# Altium integrated library Maxim Logic Switch.IntLib: 311 symbols (part 3 of 6)
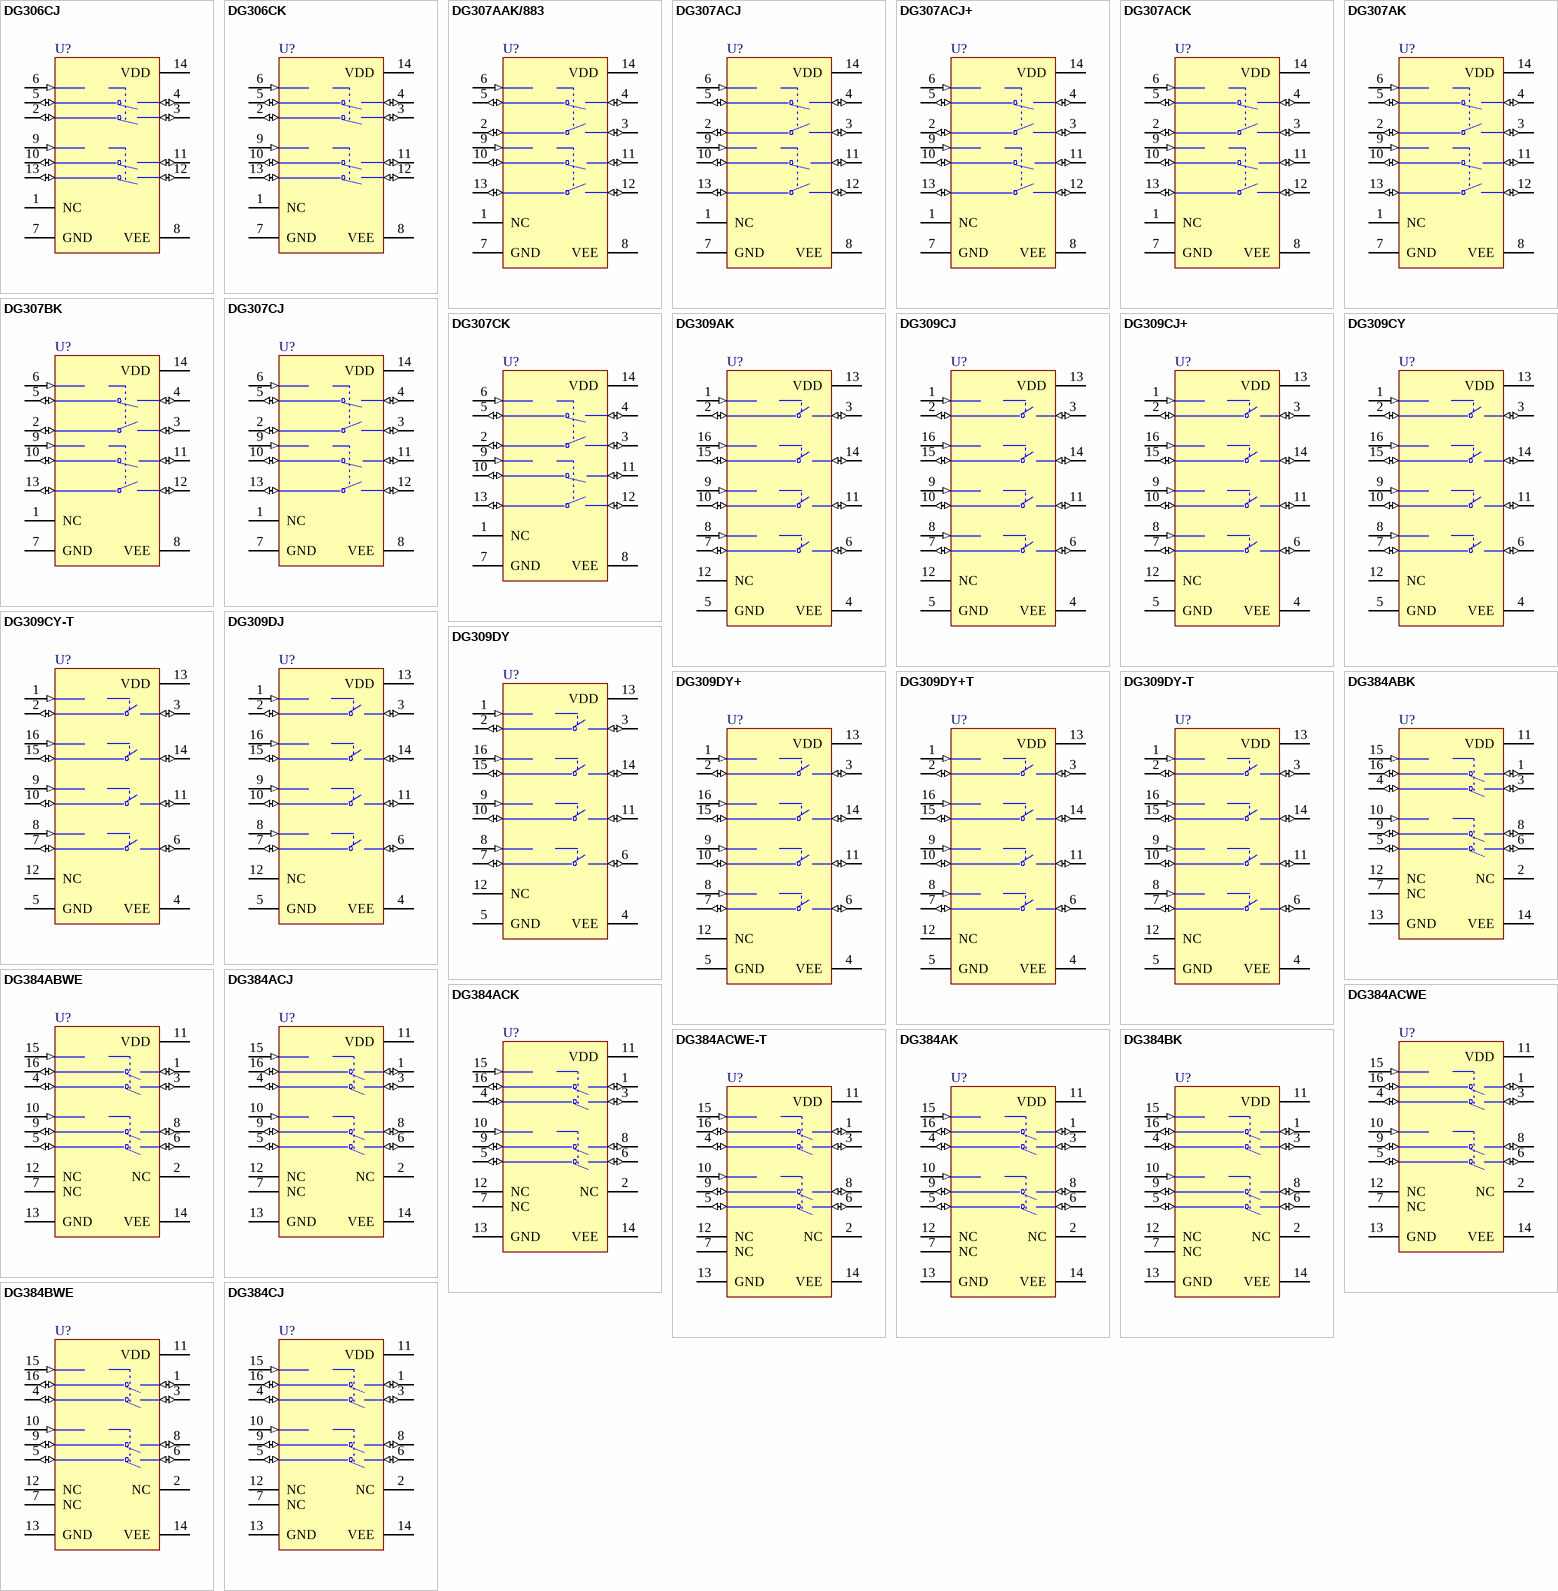
[diagram p12: symbols DG306CJ to DG384CJ]

## DG307AK
designator U?
CMOS,  Analog Switch; Published: 16-Jan-2001; LatestRevisionDate: 29-May-2009; LatestRevisionNote: Component Body Added.; PackageVersion: 1996; PackageReference: JD14; Publisher: Altium Limited; PackageDescription: DIP, 14-Pin, Row Spacing 7.62 mm, Pitch 2.54 mm; ComponentLink1Description: Manufacturer Link; ComponentLink1URL: http://www.maxim-ic.com/; ComponentLink2Description: Datasheet; ComponentLink2URL: http://pdfserv.maxim-ic.com/en/ds/DG304A-DG307A.pdf
footprint JD14 (DIP, 14-Leads, Row Spacing 7.62mm, Pitch 2.54mm, Body 19.56x6.73mm)
3D model JD14 (DIP, 14-Pin, Row Spacing 7.62 mm, Pitch 2.54 mm)
pins: 1 NC, 2 S3 (io), 3 D3 (io), 4 D1 (io), 5 S1 (io), 6 IN1 (in), 7 GND (power), 8 VEE (power), 9 IN2 (in), 10 S2 (io), 11 D2 (io), 12 D4 (io), 13 S4 (io), 14 VDD (power)

## DG307BK
designator U?
CMOS,  Analog Switch; Published: 16-Jan-2001; LatestRevisionDate: 29-May-2009; LatestRevisionNote: Component Body Added.; PackageVersion: 1996; PackageReference: JD14; Publisher: Altium Limited; PackageDescription: DIP, 14-Pin, Row Spacing 7.62 mm, Pitch 2.54 mm; ComponentLink1Description: Manufacturer Link; ComponentLink1URL: http://www.maxim-ic.com/; ComponentLink2Description: Datasheet; ComponentLink2URL: http://pdfserv.maxim-ic.com/en/ds/DG304A-DG307A.pdf
footprint JD14 (DIP, 14-Leads, Row Spacing 7.62mm, Pitch 2.54mm, Body 19.56x6.73mm)
3D model JD14 (DIP, 14-Pin, Row Spacing 7.62 mm, Pitch 2.54 mm)
pins: 1 NC, 2 S3 (io), 3 D3 (io), 4 D1 (io), 5 S1 (io), 6 IN1 (in), 7 GND (power), 8 VEE (power), 9 IN2 (in), 10 S2 (io), 11 D2 (io), 12 D4 (io), 13 S4 (io), 14 VDD (power)

## DG307CJ
designator U?
CMOS,  Analog Switch; Published: 16-Jan-2001; LatestRevisionDate: 29-May-2009; LatestRevisionNote: Component Body Added.; PackageVersion: RevB, 21-0043; PackageReference: PD14; Publisher: Altium Limited; PackageDescription: DIP, 14-Pin, Row Spacing 7.62 mm, Pitch 2.54 mm; Code_JEDEC: MS-001-AC; ComponentLink1Description: Manufacturer Link; ComponentLink1URL: http://www.maxim-ic.com/; ComponentLink2Description: Datasheet; ComponentLink2URL: http://pdfserv.maxim-ic.com/en/ds/DG304A-DG307A.pdf
footprint PD14 (DIP, 14-Leads, Row Spacing 7.62mm, Pitch 2.54mm, Body 19.05x7.24mm)
3D model PD14 (DIP, 14-Pin, Row Spacing 7.62 mm, Pitch 2.54 mm)
pins: 1 NC, 2 S3 (io), 3 D3 (io), 4 D1 (io), 5 S1 (io), 6 IN1 (in), 7 GND (power), 8 VEE (power), 9 IN2 (in), 10 S2 (io), 11 D2 (io), 12 D4 (io), 13 S4 (io), 14 VDD (power)

## DG307CK
designator U?
CMOS,  Analog Switch; Published: 16-Jan-2001; LatestRevisionDate: 29-May-2009; LatestRevisionNote: Component Body Added.; PackageVersion: 1996; PackageReference: JD14; Publisher: Altium Limited; PackageDescription: DIP, 14-Pin, Row Spacing 7.62 mm, Pitch 2.54 mm; ComponentLink1Description: Manufacturer Link; ComponentLink1URL: http://www.maxim-ic.com/; ComponentLink2Description: Datasheet; ComponentLink2URL: http://pdfserv.maxim-ic.com/en/ds/DG304A-DG307A.pdf
footprint JD14 (DIP, 14-Leads, Row Spacing 7.62mm, Pitch 2.54mm, Body 19.56x6.73mm)
3D model JD14 (DIP, 14-Pin, Row Spacing 7.62 mm, Pitch 2.54 mm)
pins: 1 NC, 2 S3 (io), 3 D3 (io), 4 D1 (io), 5 S1 (io), 6 IN1 (in), 7 GND (power), 8 VEE (power), 9 IN2 (in), 10 S2 (io), 11 D2 (io), 12 D4 (io), 13 S4 (io), 14 VDD (power)

## DG309AK
designator U?
Quad, SPST, Analog Switch; Published: 16-Jan-2001; LatestRevisionDate: 29-May-2009; LatestRevisionNote: Component Body Added.; PackageVersion: 1996; PackageReference: JE16; Publisher: Altium Limited; PackageDescription: DIP, 16-Pin, Row Spacing 7.62 mm, Pitch 2.54 mm; ComponentLink1Description: Manufacturer Link; ComponentLink1URL: http://www.maxim-ic.com/; ComponentLink2Description: Datasheet; ComponentLink2URL: http://pdfserv.maxim-ic.com/en/ds/DG308A-DG309.pdf
footprint JE16 (DIP, 16-Leads, Row Spacing 7.62mm, Pitch 2.54mm, Body 20.37x6.73mm)
3D model JE16 (DIP, 16-Pin, Row Spacing 7.62 mm, Pitch 2.54 mm)
pins: 1 IN1 (in), 2 D1 (io), 3 S1 (io), 4 VEE (power), 5 GND (power), 6 S4 (io), 7 D4 (io), 8 IN4 (in), 9 IN3 (in), 10 D3 (io), 11 S3 (io), 12 NC, 13 VDD (power), 14 S2 (io), 15 D2 (io), 16 IN2 (in)

## DG309CJ
designator U?
Quad, SPST, Analog Switch; Published: 16-Jan-2001; LatestRevisionDate: 29-May-2009; LatestRevisionNote: Component Body Added.; PackageVersion: 1997; PackageReference: PE16A; Publisher: Altium Limited; PackageDescription: DIP, 16-Pin, Row Spacing 7.62 mm, Pitch 2.54 mm; Code_JEDEC: MS-001-BB; ComponentLink1Description: Manufacturer Link; ComponentLink1URL: http://www.maxim-ic.com/; ComponentLink2Description: Datasheet; ComponentLink2URL: http://pdfserv.maxim-ic.com/en/ds/DG308A-DG309.pdf
footprint PE16A (DIP, 16-Leads, Row Spacing 7.62mm, Pitch 2.54mm, Body 19.18x6.99mm)
3D model PE16 (DIP, 16-Pin, Row Spacing 7.62 mm, Pitch 2.54 mm)
pins: 1 IN1 (in), 2 D1 (io), 3 S1 (io), 4 VEE (power), 5 GND (power), 6 S4 (io), 7 D4 (io), 8 IN4 (in), 9 IN3 (in), 10 D3 (io), 11 S3 (io), 12 NC, 13 VDD (power), 14 S2 (io), 15 D2 (io), 16 IN2 (in)

## DG309CJ+
designator U?
Quad, SPST, Analog Switch; Published: 16-Jan-2001; LatestRevisionDate: 29-May-2009; LatestRevisionNote: Component Body Added.; PackageVersion: 1997; PackageReference: PE16A; Publisher: Altium Limited; PackageDescription: DIP, 16-Pin, Row Spacing 7.62 mm, Pitch 2.54 mm; Code_JEDEC: MS-001-BB; ComponentLink1Description: Manufacturer Link; ComponentLink1URL: http://www.maxim-ic.com/; ComponentLink2Description: Datasheet; ComponentLink2URL: http://pdfserv.maxim-ic.com/en/ds/DG308A-DG309.pdf
footprint PE16A (DIP, 16-Leads, Row Spacing 7.62mm, Pitch 2.54mm, Body 19.18x6.99mm)
3D model PE16 (DIP, 16-Pin, Row Spacing 7.62 mm, Pitch 2.54 mm)
pins: 1 IN1 (in), 2 D1 (io), 3 S1 (io), 4 VEE (power), 5 GND (power), 6 S4 (io), 7 D4 (io), 8 IN4 (in), 9 IN3 (in), 10 D3 (io), 11 S3 (io), 12 NC, 13 VDD (power), 14 S2 (io), 15 D2 (io), 16 IN2 (in)

## DG309CY
designator U?
Quad, SPST, Analog Switch; Published: 16-Jan-2001; LatestRevisionDate: 13-Apr-2006; LatestRevisionNote: IPC-7351 Footprint Added.; PackageReference: NSO16; Publisher: Altium Limited; PackageDescription: 16-Pin Small Outline Integrated Circuit 1.27 mm Pitch; Code_JEDEC: MS-012-AC; Code_IPC: SOIC127P600-16; ComponentLink1Description: Manufacturer Link; ComponentLink1URL: http://www.maxim-ic.com/; ComponentLink2Description: Datasheet; ComponentLink2URL: http://pdfserv.maxim-ic.com/en/ds/DG308A-DG309.pdf
footprint NSO16_N (SOIC, 16-Leads, Body 9.9x3.9mm, Pitch 1.27mm, IPC Medium Density)
footprint NSO16_L (SOIC, 16-Leads, Body 9.9x3.9mm, Pitch 1.27mm, IPC High Density)
footprint NSO16_M (SOIC, 16-Leads, Body 9.9x3.9mm, Pitch 1.27mm, IPC Low Density)
3D model NSO16 (16-Pin Small Outline Integrated Circuit 1.27 mm Pitch)
pins: 1 IN1 (in), 2 D1 (io), 3 S1 (io), 4 VEE (power), 5 GND (power), 6 S4 (io), 7 D4 (io), 8 IN4 (in), 9 IN3 (in), 10 D3 (io), 11 S3 (io), 12 NC, 13 VDD (power), 14 S2 (io), 15 D2 (io), 16 IN2 (in)

## DG309CY-T
designator U?
Quad, SPST, Analog Switch; Published: 16-Jan-2001; LatestRevisionDate: 13-Apr-2006; LatestRevisionNote: IPC-7351 Footprint Added.; PackageReference: NSO16; Publisher: Altium Limited; PackageDescription: 16-Pin Small Outline Integrated Circuit 1.27 mm Pitch; Code_JEDEC: MS-012-AC; Code_IPC: SOIC127P600-16; ComponentLink1Description: Manufacturer Link; ComponentLink1URL: http://www.maxim-ic.com/; ComponentLink2Description: Datasheet; ComponentLink2URL: http://pdfserv.maxim-ic.com/en/ds/DG308A-DG309.pdf
footprint NSO16_N (SOIC, 16-Leads, Body 9.9x3.9mm, Pitch 1.27mm, IPC Medium Density)
footprint NSO16_L (SOIC, 16-Leads, Body 9.9x3.9mm, Pitch 1.27mm, IPC High Density)
footprint NSO16_M (SOIC, 16-Leads, Body 9.9x3.9mm, Pitch 1.27mm, IPC Low Density)
3D model NSO16 (16-Pin Small Outline Integrated Circuit 1.27 mm Pitch)
pins: 1 IN1 (in), 2 D1 (io), 3 S1 (io), 4 VEE (power), 5 GND (power), 6 S4 (io), 7 D4 (io), 8 IN4 (in), 9 IN3 (in), 10 D3 (io), 11 S3 (io), 12 NC, 13 VDD (power), 14 S2 (io), 15 D2 (io), 16 IN2 (in)

## DG309DJ
designator U?
Quad, SPST, Analog Switch; Published: 16-Jan-2001; LatestRevisionDate: 29-May-2009; LatestRevisionNote: Component Body Added.; PackageVersion: 1997; PackageReference: PE16A; Publisher: Altium Limited; PackageDescription: DIP, 16-Pin, Row Spacing 7.62 mm, Pitch 2.54 mm; Code_JEDEC: MS-001-BB; ComponentLink1Description: Manufacturer Link; ComponentLink1URL: http://www.maxim-ic.com/; ComponentLink2Description: Datasheet; ComponentLink2URL: http://pdfserv.maxim-ic.com/en/ds/DG308A-DG309.pdf
footprint PE16A (DIP, 16-Leads, Row Spacing 7.62mm, Pitch 2.54mm, Body 19.18x6.99mm)
3D model PE16 (DIP, 16-Pin, Row Spacing 7.62 mm, Pitch 2.54 mm)
pins: 1 IN1 (in), 2 D1 (io), 3 S1 (io), 4 VEE (power), 5 GND (power), 6 S4 (io), 7 D4 (io), 8 IN4 (in), 9 IN3 (in), 10 D3 (io), 11 S3 (io), 12 NC, 13 VDD (power), 14 S2 (io), 15 D2 (io), 16 IN2 (in)

## DG309DY
designator U?
Quad, SPST, Analog Switch; Published: 16-Jan-2001; LatestRevisionDate: 13-Apr-2006; LatestRevisionNote: IPC-7351 Footprint Added.; PackageReference: NSO16; Publisher: Altium Limited; PackageDescription: 16-Pin Small Outline Integrated Circuit 1.27 mm Pitch; Code_JEDEC: MS-012-AC; Code_IPC: SOIC127P600-16; ComponentLink1Description: Manufacturer Link; ComponentLink1URL: http://www.maxim-ic.com/; ComponentLink2Description: Datasheet; ComponentLink2URL: http://pdfserv.maxim-ic.com/en/ds/DG308A-DG309.pdf
footprint NSO16_N (SOIC, 16-Leads, Body 9.9x3.9mm, Pitch 1.27mm, IPC Medium Density)
footprint NSO16_L (SOIC, 16-Leads, Body 9.9x3.9mm, Pitch 1.27mm, IPC High Density)
footprint NSO16_M (SOIC, 16-Leads, Body 9.9x3.9mm, Pitch 1.27mm, IPC Low Density)
3D model NSO16 (16-Pin Small Outline Integrated Circuit 1.27 mm Pitch)
pins: 1 IN1 (in), 2 D1 (io), 3 S1 (io), 4 VEE (power), 5 GND (power), 6 S4 (io), 7 D4 (io), 8 IN4 (in), 9 IN3 (in), 10 D3 (io), 11 S3 (io), 12 NC, 13 VDD (power), 14 S2 (io), 15 D2 (io), 16 IN2 (in)

## DG309DY+
designator U?
Quad, SPST, Analog Switch; Published: 16-Jan-2001; LatestRevisionDate: 13-Apr-2006; LatestRevisionNote: IPC-7351 Footprint Added.; PackageReference: NSO16; Publisher: Altium Limited; PackageDescription: 16-Pin Small Outline Integrated Circuit 1.27 mm Pitch; Code_JEDEC: MS-012-AC; Code_IPC: SOIC127P600-16; ComponentLink1Description: Manufacturer Link; ComponentLink1URL: http://www.maxim-ic.com/; ComponentLink2Description: Datasheet; ComponentLink2URL: http://pdfserv.maxim-ic.com/en/ds/DG308A-DG309.pdf
footprint NSO16_N (SOIC, 16-Leads, Body 9.9x3.9mm, Pitch 1.27mm, IPC Medium Density)
footprint NSO16_L (SOIC, 16-Leads, Body 9.9x3.9mm, Pitch 1.27mm, IPC High Density)
footprint NSO16_M (SOIC, 16-Leads, Body 9.9x3.9mm, Pitch 1.27mm, IPC Low Density)
3D model NSO16 (16-Pin Small Outline Integrated Circuit 1.27 mm Pitch)
pins: 1 IN1 (in), 2 D1 (io), 3 S1 (io), 4 VEE (power), 5 GND (power), 6 S4 (io), 7 D4 (io), 8 IN4 (in), 9 IN3 (in), 10 D3 (io), 11 S3 (io), 12 NC, 13 VDD (power), 14 S2 (io), 15 D2 (io), 16 IN2 (in)

## DG309DY+T
designator U?
Quad, SPST, Analog Switch; Published: 16-Jan-2001; LatestRevisionDate: 13-Apr-2006; LatestRevisionNote: IPC-7351 Footprint Added.; PackageReference: NSO16; Publisher: Altium Limited; PackageDescription: 16-Pin Small Outline Integrated Circuit 1.27 mm Pitch; Code_JEDEC: MS-012-AC; Code_IPC: SOIC127P600-16; ComponentLink1Description: Manufacturer Link; ComponentLink1URL: http://www.maxim-ic.com/; ComponentLink2Description: Datasheet; ComponentLink2URL: http://pdfserv.maxim-ic.com/en/ds/DG308A-DG309.pdf
footprint NSO16_N (SOIC, 16-Leads, Body 9.9x3.9mm, Pitch 1.27mm, IPC Medium Density)
footprint NSO16_L (SOIC, 16-Leads, Body 9.9x3.9mm, Pitch 1.27mm, IPC High Density)
footprint NSO16_M (SOIC, 16-Leads, Body 9.9x3.9mm, Pitch 1.27mm, IPC Low Density)
3D model NSO16 (16-Pin Small Outline Integrated Circuit 1.27 mm Pitch)
pins: 1 IN1 (in), 2 D1 (io), 3 S1 (io), 4 VEE (power), 5 GND (power), 6 S4 (io), 7 D4 (io), 8 IN4 (in), 9 IN3 (in), 10 D3 (io), 11 S3 (io), 12 NC, 13 VDD (power), 14 S2 (io), 15 D2 (io), 16 IN2 (in)

## DG309DY-T
designator U?
Quad, SPST, Analog Switch; Published: 16-Jan-2001; LatestRevisionDate: 13-Apr-2006; LatestRevisionNote: IPC-7351 Footprint Added.; PackageReference: NSO16; Publisher: Altium Limited; PackageDescription: 16-Pin Small Outline Integrated Circuit 1.27 mm Pitch; Code_JEDEC: MS-012-AC; Code_IPC: SOIC127P600-16; ComponentLink1Description: Manufacturer Link; ComponentLink1URL: http://www.maxim-ic.com/; ComponentLink2Description: Datasheet; ComponentLink2URL: http://pdfserv.maxim-ic.com/en/ds/DG308A-DG309.pdf
footprint NSO16_N (SOIC, 16-Leads, Body 9.9x3.9mm, Pitch 1.27mm, IPC Medium Density)
footprint NSO16_L (SOIC, 16-Leads, Body 9.9x3.9mm, Pitch 1.27mm, IPC High Density)
footprint NSO16_M (SOIC, 16-Leads, Body 9.9x3.9mm, Pitch 1.27mm, IPC Low Density)
3D model NSO16 (16-Pin Small Outline Integrated Circuit 1.27 mm Pitch)
pins: 1 IN1 (in), 2 D1 (io), 3 S1 (io), 4 VEE (power), 5 GND (power), 6 S4 (io), 7 D4 (io), 8 IN4 (in), 9 IN3 (in), 10 D3 (io), 11 S3 (io), 12 NC, 13 VDD (power), 14 S2 (io), 15 D2 (io), 16 IN2 (in)

## DG384ABK
designator U?
CMOS Analog Switch; Published: 16-Jan-2001; LatestRevisionDate: 29-May-2009; LatestRevisionNote: Component Body Added.; PackageVersion: 1996; PackageReference: JE16; Publisher: Altium Limited; PackageDescription: DIP, 16-Pin, Row Spacing 7.62 mm, Pitch 2.54 mm; ComponentLink1Description: Manufacturer Link; ComponentLink1URL: http://www.maxim-ic.com/; ComponentLink2Description: Datasheet; ComponentLink2URL: http://pdfserv.maxim-ic.com/en/ds/DG381A-DG390A.pdf
footprint JE16 (DIP, 16-Leads, Row Spacing 7.62mm, Pitch 2.54mm, Body 20.37x6.73mm)
3D model JE16 (DIP, 16-Pin, Row Spacing 7.62 mm, Pitch 2.54 mm)
pins: 1 D1 (io), 2 NC, 3 D3 (io), 4 S3 (io), 5 S4 (io), 6 D4 (io), 7 NC, 8 D2 (io), 9 S2 (io), 10 IN2 (in), 11 VDD (power), 12 NC, 13 GND (power), 14 VEE (power), 15 IN1 (in), 16 S1 (io)

## DG384ABWE
designator U?
CMOS Analog Switch; Published: 16-Jan-2001; LatestRevisionDate: 13-Apr-2006; LatestRevisionNote: IPC-7351 Footprint Added.; PackageReference: WSO16; Publisher: Altium Limited; PackageDescription: 16-Pin Small Outline Integrated Circuit 1.27 mm Pitch; Code_JEDEC: MS-013-AA; Code_IPC: SOIC127P1030-16; ComponentLink1Description: Manufacturer Link; ComponentLink1URL: http://www.maxim-ic.com/; ComponentLink2Description: Datasheet; ComponentLink2URL: http://pdfserv.maxim-ic.com/en/ds/DG381A-DG390A.pdf
footprint WSO16_N (SOIC, 16-Leads, Body 10.3x7.5mm, Pitch 1.27mm, IPC Medium Density)
footprint WSO16_L (SOIC, 16-Leads, Body 10.3x7.5mm, Pitch 1.27mm, IPC High Density)
footprint WSO16_M (SOIC, 16-Leads, Body 10.3x7.5mm, Pitch 1.27mm, IPC Low Density)
3D model WSO16 (16-Pin Small Outline Integrated Circuit 1.27 mm Pitch)
pins: 1 D1 (io), 2 NC, 3 D3 (io), 4 S3 (io), 5 S4 (io), 6 D4 (io), 7 NC, 8 D2 (io), 9 S2 (io), 10 IN2 (in), 11 VDD (power), 12 NC, 13 GND (power), 14 VEE (power), 15 IN1 (in), 16 S1 (io)

## DG384ACJ
designator U?
CMOS Analog Switch; Published: 16-Jan-2001; LatestRevisionDate: 29-May-2009; LatestRevisionNote: Component Body Added.; PackageVersion: 1997; PackageReference: PE16A; Publisher: Altium Limited; PackageDescription: DIP, 16-Pin, Row Spacing 7.62 mm, Pitch 2.54 mm; Code_JEDEC: MS-001-BB; ComponentLink1Description: Manufacturer Link; ComponentLink1URL: http://www.maxim-ic.com/; ComponentLink2Description: Datasheet; ComponentLink2URL: http://pdfserv.maxim-ic.com/en/ds/DG381A-DG390A.pdf
footprint PE16A (DIP, 16-Leads, Row Spacing 7.62mm, Pitch 2.54mm, Body 19.18x6.99mm)
3D model PE16 (DIP, 16-Pin, Row Spacing 7.62 mm, Pitch 2.54 mm)
pins: 1 D1 (io), 2 NC, 3 D3 (io), 4 S3 (io), 5 S4 (io), 6 D4 (io), 7 NC, 8 D2 (io), 9 S2 (io), 10 IN2 (in), 11 VDD (power), 12 NC, 13 GND (power), 14 VEE (power), 15 IN1 (in), 16 S1 (io)

## DG384ACK
designator U?
CMOS Analog Switch; Published: 16-Jan-2001; LatestRevisionDate: 29-May-2009; LatestRevisionNote: Component Body Added.; PackageVersion: 1996; PackageReference: JE16; Publisher: Altium Limited; PackageDescription: DIP, 16-Pin, Row Spacing 7.62 mm, Pitch 2.54 mm; ComponentLink1Description: Manufacturer Link; ComponentLink1URL: http://www.maxim-ic.com/; ComponentLink2Description: Datasheet; ComponentLink2URL: http://pdfserv.maxim-ic.com/en/ds/DG381A-DG390A.pdf
footprint JE16 (DIP, 16-Leads, Row Spacing 7.62mm, Pitch 2.54mm, Body 20.37x6.73mm)
3D model JE16 (DIP, 16-Pin, Row Spacing 7.62 mm, Pitch 2.54 mm)
pins: 1 D1 (io), 2 NC, 3 D3 (io), 4 S3 (io), 5 S4 (io), 6 D4 (io), 7 NC, 8 D2 (io), 9 S2 (io), 10 IN2 (in), 11 VDD (power), 12 NC, 13 GND (power), 14 VEE (power), 15 IN1 (in), 16 S1 (io)

## DG384ACWE
designator U?
CMOS Analog Switch; Published: 16-Jan-2001; LatestRevisionDate: 13-Apr-2006; LatestRevisionNote: IPC-7351 Footprint Added.; PackageReference: WSO16; Publisher: Altium Limited; PackageDescription: 16-Pin Small Outline Integrated Circuit 1.27 mm Pitch; Code_JEDEC: MS-013-AA; Code_IPC: SOIC127P1030-16; ComponentLink1Description: Manufacturer Link; ComponentLink1URL: http://www.maxim-ic.com/; ComponentLink2Description: Datasheet; ComponentLink2URL: http://pdfserv.maxim-ic.com/en/ds/DG381A-DG390A.pdf
footprint WSO16_N (SOIC, 16-Leads, Body 10.3x7.5mm, Pitch 1.27mm, IPC Medium Density)
footprint WSO16_L (SOIC, 16-Leads, Body 10.3x7.5mm, Pitch 1.27mm, IPC High Density)
footprint WSO16_M (SOIC, 16-Leads, Body 10.3x7.5mm, Pitch 1.27mm, IPC Low Density)
3D model WSO16 (16-Pin Small Outline Integrated Circuit 1.27 mm Pitch)
pins: 1 D1 (io), 2 NC, 3 D3 (io), 4 S3 (io), 5 S4 (io), 6 D4 (io), 7 NC, 8 D2 (io), 9 S2 (io), 10 IN2 (in), 11 VDD (power), 12 NC, 13 GND (power), 14 VEE (power), 15 IN1 (in), 16 S1 (io)

## DG384ACWE-T
designator U?
CMOS Analog Switch; Published: 16-Jan-2001; LatestRevisionDate: 13-Apr-2006; LatestRevisionNote: IPC-7351 Footprint Added.; PackageReference: WSO16; Publisher: Altium Limited; PackageDescription: 16-Pin Small Outline Integrated Circuit 1.27 mm Pitch; Code_JEDEC: MS-013-AA; Code_IPC: SOIC127P1030-16; ComponentLink1Description: Manufacturer Link; ComponentLink1URL: http://www.maxim-ic.com/; ComponentLink2Description: Datasheet; ComponentLink2URL: http://pdfserv.maxim-ic.com/en/ds/DG381A-DG390A.pdf
footprint WSO16_N (SOIC, 16-Leads, Body 10.3x7.5mm, Pitch 1.27mm, IPC Medium Density)
footprint WSO16_L (SOIC, 16-Leads, Body 10.3x7.5mm, Pitch 1.27mm, IPC High Density)
footprint WSO16_M (SOIC, 16-Leads, Body 10.3x7.5mm, Pitch 1.27mm, IPC Low Density)
3D model WSO16 (16-Pin Small Outline Integrated Circuit 1.27 mm Pitch)
pins: 1 D1 (io), 2 NC, 3 D3 (io), 4 S3 (io), 5 S4 (io), 6 D4 (io), 7 NC, 8 D2 (io), 9 S2 (io), 10 IN2 (in), 11 VDD (power), 12 NC, 13 GND (power), 14 VEE (power), 15 IN1 (in), 16 S1 (io)

## DG384AK
designator U?
CMOS Analog Switch; Published: 16-Jan-2001; LatestRevisionDate: 29-May-2009; LatestRevisionNote: Component Body Added.; PackageVersion: 1996; PackageReference: JE16; Publisher: Altium Limited; PackageDescription: DIP, 16-Pin, Row Spacing 7.62 mm, Pitch 2.54 mm; ComponentLink1Description: Manufacturer Link; ComponentLink1URL: http://www.maxim-ic.com/; ComponentLink2Description: Datasheet; ComponentLink2URL: http://pdfserv.maxim-ic.com/en/ds/DG381A-DG390A.pdf
footprint JE16 (DIP, 16-Leads, Row Spacing 7.62mm, Pitch 2.54mm, Body 20.37x6.73mm)
3D model JE16 (DIP, 16-Pin, Row Spacing 7.62 mm, Pitch 2.54 mm)
pins: 1 D1 (io), 2 NC, 3 D3 (io), 4 S3 (io), 5 S4 (io), 6 D4 (io), 7 NC, 8 D2 (io), 9 S2 (io), 10 IN2 (in), 11 VDD (power), 12 NC, 13 GND (power), 14 VEE (power), 15 IN1 (in), 16 S1 (io)

## DG384BK
designator U?
CMOS Analog Switch; Published: 16-Jan-2001; LatestRevisionDate: 29-May-2009; LatestRevisionNote: Component Body Added.; PackageVersion: 1996; PackageReference: JE16; Publisher: Altium Limited; PackageDescription: DIP, 16-Pin, Row Spacing 7.62 mm, Pitch 2.54 mm; ComponentLink1Description: Manufacturer Link; ComponentLink1URL: http://www.maxim-ic.com/; ComponentLink2Description: Datasheet; ComponentLink2URL: http://pdfserv.maxim-ic.com/en/ds/DG381A-DG390A.pdf
footprint JE16 (DIP, 16-Leads, Row Spacing 7.62mm, Pitch 2.54mm, Body 20.37x6.73mm)
3D model JE16 (DIP, 16-Pin, Row Spacing 7.62 mm, Pitch 2.54 mm)
pins: 1 D1 (io), 2 NC, 3 D3 (io), 4 S3 (io), 5 S4 (io), 6 D4 (io), 7 NC, 8 D2 (io), 9 S2 (io), 10 IN2 (in), 11 VDD (power), 12 NC, 13 GND (power), 14 VEE (power), 15 IN1 (in), 16 S1 (io)

## DG384BWE
designator U?
CMOS Analog Switch; Published: 16-Jan-2001; LatestRevisionDate: 13-Apr-2006; LatestRevisionNote: IPC-7351 Footprint Added.; PackageReference: WSO16; Publisher: Altium Limited; PackageDescription: 16-Pin Small Outline Integrated Circuit 1.27 mm Pitch; Code_JEDEC: MS-013-AA; Code_IPC: SOIC127P1030-16; ComponentLink1Description: Manufacturer Link; ComponentLink1URL: http://www.maxim-ic.com/; ComponentLink2Description: Datasheet; ComponentLink2URL: http://pdfserv.maxim-ic.com/en/ds/DG381A-DG390A.pdf
footprint WSO16_N (SOIC, 16-Leads, Body 10.3x7.5mm, Pitch 1.27mm, IPC Medium Density)
footprint WSO16_L (SOIC, 16-Leads, Body 10.3x7.5mm, Pitch 1.27mm, IPC High Density)
footprint WSO16_M (SOIC, 16-Leads, Body 10.3x7.5mm, Pitch 1.27mm, IPC Low Density)
3D model WSO16 (16-Pin Small Outline Integrated Circuit 1.27 mm Pitch)
pins: 1 D1 (io), 2 NC, 3 D3 (io), 4 S3 (io), 5 S4 (io), 6 D4 (io), 7 NC, 8 D2 (io), 9 S2 (io), 10 IN2 (in), 11 VDD (power), 12 NC, 13 GND (power), 14 VEE (power), 15 IN1 (in), 16 S1 (io)

## DG384CJ
designator U?
CMOS Analog Switch; Published: 16-Jan-2001; LatestRevisionDate: 29-May-2009; LatestRevisionNote: Component Body Added.; PackageVersion: 1997; PackageReference: PE16A; Publisher: Altium Limited; PackageDescription: DIP, 16-Pin, Row Spacing 7.62 mm, Pitch 2.54 mm; Code_JEDEC: MS-001-BB; ComponentLink1Description: Manufacturer Link; ComponentLink1URL: http://www.maxim-ic.com/; ComponentLink2Description: Datasheet; ComponentLink2URL: http://pdfserv.maxim-ic.com/en/ds/DG381A-DG390A.pdf
footprint PE16A (DIP, 16-Leads, Row Spacing 7.62mm, Pitch 2.54mm, Body 19.18x6.99mm)
3D model PE16 (DIP, 16-Pin, Row Spacing 7.62 mm, Pitch 2.54 mm)
pins: 1 D1 (io), 2 NC, 3 D3 (io), 4 S3 (io), 5 S4 (io), 6 D4 (io), 7 NC, 8 D2 (io), 9 S2 (io), 10 IN2 (in), 11 VDD (power), 12 NC, 13 GND (power), 14 VEE (power), 15 IN1 (in), 16 S1 (io)

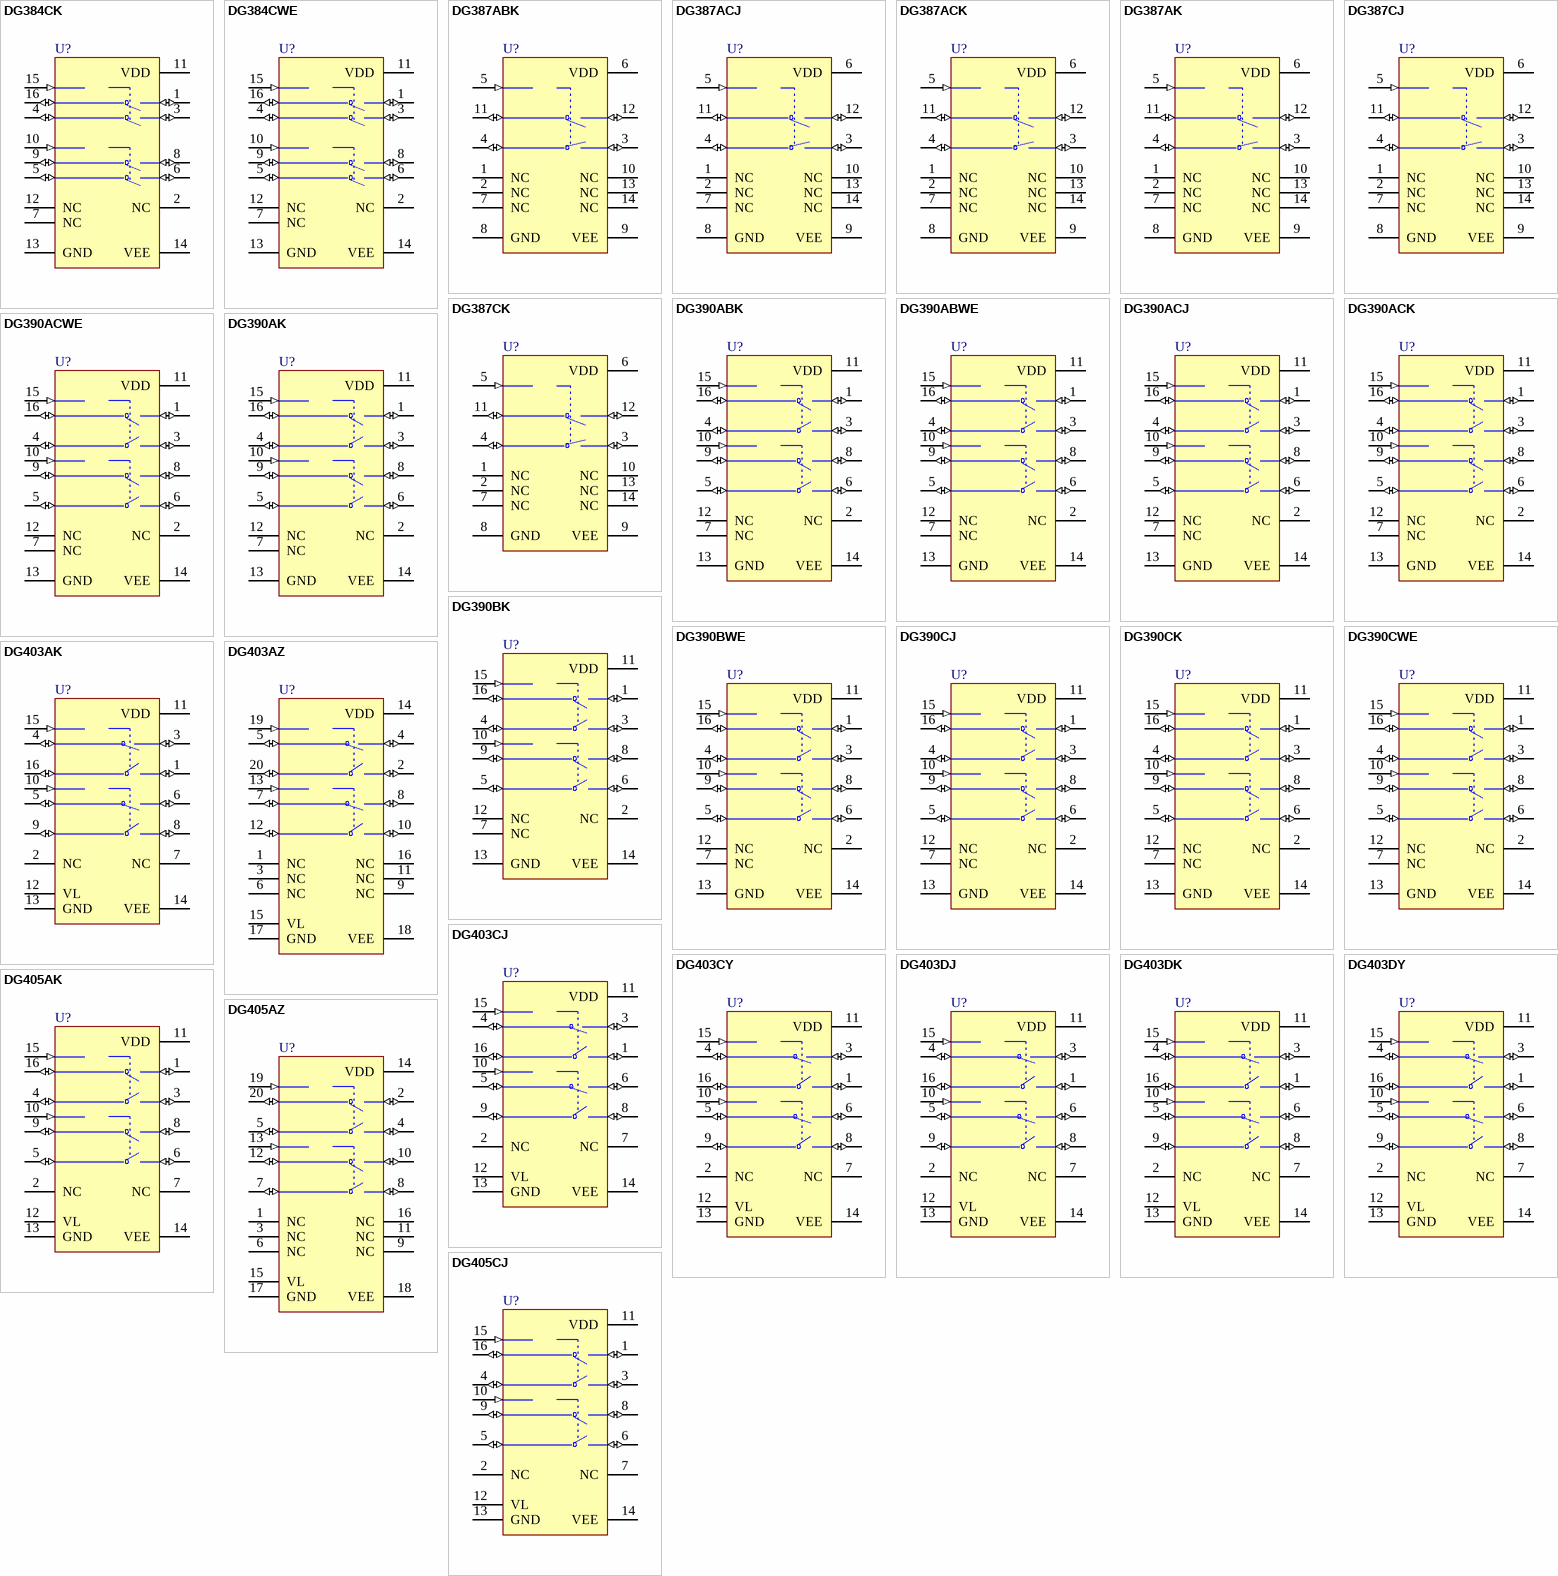
[diagram p4: symbols DG384CK to DG405CJ]

## DG384CK
designator U?
CMOS Analog Switch; Published: 16-Jan-2001; LatestRevisionDate: 29-May-2009; LatestRevisionNote: Component Body Added.; PackageVersion: 1996; PackageReference: JE16; Publisher: Altium Limited; PackageDescription: DIP, 16-Pin, Row Spacing 7.62 mm, Pitch 2.54 mm; ComponentLink1Description: Manufacturer Link; ComponentLink1URL: http://www.maxim-ic.com/; ComponentLink2Description: Datasheet; ComponentLink2URL: http://pdfserv.maxim-ic.com/en/ds/DG381A-DG390A.pdf
footprint JE16 (DIP, 16-Leads, Row Spacing 7.62mm, Pitch 2.54mm, Body 20.37x6.73mm)
3D model JE16 (DIP, 16-Pin, Row Spacing 7.62 mm, Pitch 2.54 mm)
pins: 1 D1 (io), 2 NC, 3 D3 (io), 4 S3 (io), 5 S4 (io), 6 D4 (io), 7 NC, 8 D2 (io), 9 S2 (io), 10 IN2 (in), 11 VDD (power), 12 NC, 13 GND (power), 14 VEE (power), 15 IN1 (in), 16 S1 (io)

## DG384CWE
designator U?
CMOS Analog Switch; Published: 16-Jan-2001; LatestRevisionDate: 13-Apr-2006; LatestRevisionNote: IPC-7351 Footprint Added.; PackageReference: WSO16; Publisher: Altium Limited; PackageDescription: 16-Pin Small Outline Integrated Circuit 1.27 mm Pitch; Code_JEDEC: MS-013-AA; Code_IPC: SOIC127P1030-16; ComponentLink1Description: Manufacturer Link; ComponentLink1URL: http://www.maxim-ic.com/; ComponentLink2Description: Datasheet; ComponentLink2URL: http://pdfserv.maxim-ic.com/en/ds/DG381A-DG390A.pdf
footprint WSO16_N (SOIC, 16-Leads, Body 10.3x7.5mm, Pitch 1.27mm, IPC Medium Density)
footprint WSO16_L (SOIC, 16-Leads, Body 10.3x7.5mm, Pitch 1.27mm, IPC High Density)
footprint WSO16_M (SOIC, 16-Leads, Body 10.3x7.5mm, Pitch 1.27mm, IPC Low Density)
3D model WSO16 (16-Pin Small Outline Integrated Circuit 1.27 mm Pitch)
pins: 1 D1 (io), 2 NC, 3 D3 (io), 4 S3 (io), 5 S4 (io), 6 D4 (io), 7 NC, 8 D2 (io), 9 S2 (io), 10 IN2 (in), 11 VDD (power), 12 NC, 13 GND (power), 14 VEE (power), 15 IN1 (in), 16 S1 (io)

## DG387ABK
designator U?
CMOS Analog Switch; Published: 16-Jan-2001; LatestRevisionDate: 29-May-2009; LatestRevisionNote: Component Body Added.; PackageVersion: 1996; PackageReference: JD14; Publisher: Altium Limited; PackageDescription: DIP, 14-Pin, Row Spacing 7.62 mm, Pitch 2.54 mm; ComponentLink1Description: Manufacturer Link; ComponentLink1URL: http://www.maxim-ic.com/; ComponentLink2Description: Datasheet; ComponentLink2URL: http://pdfserv.maxim-ic.com/en/ds/DG381A-DG390A.pdf
footprint JD14 (DIP, 14-Leads, Row Spacing 7.62mm, Pitch 2.54mm, Body 19.56x6.73mm)
3D model JD14 (DIP, 14-Pin, Row Spacing 7.62 mm, Pitch 2.54 mm)
pins: 1 NC, 2 NC, 3 D1 (io), 4 S1 (io), 5 IN (in), 6 VDD (power), 7 NC (power), 8 GND (power), 9 VEE (power), 10 NC, 11 S2 (io), 12 D2 (io), 13 NC, 14 NC

## DG387ACJ
designator U?
CMOS Analog Switch; Published: 16-Jan-2001; LatestRevisionDate: 29-May-2009; LatestRevisionNote: Component Body Added.; PackageVersion: RevB, 21-0043; PackageReference: PD14; Publisher: Altium Limited; PackageDescription: DIP, 14-Pin, Row Spacing 7.62 mm, Pitch 2.54 mm; Code_JEDEC: MS-001-AC; ComponentLink1Description: Manufacturer Link; ComponentLink1URL: http://www.maxim-ic.com/; ComponentLink2Description: Datasheet; ComponentLink2URL: http://pdfserv.maxim-ic.com/en/ds/DG381A-DG390A.pdf
footprint PD14 (DIP, 14-Leads, Row Spacing 7.62mm, Pitch 2.54mm, Body 19.05x7.24mm)
3D model PD14 (DIP, 14-Pin, Row Spacing 7.62 mm, Pitch 2.54 mm)
pins: 1 NC, 2 NC, 3 D1 (io), 4 S1 (io), 5 IN (in), 6 VDD (power), 7 NC (power), 8 GND (power), 9 VEE (power), 10 NC, 11 S2 (io), 12 D2 (io), 13 NC, 14 NC

## DG387ACK
designator U?
CMOS Analog Switch; Published: 16-Jan-2001; LatestRevisionDate: 29-May-2009; LatestRevisionNote: Component Body Added.; PackageVersion: 1996; PackageReference: JD14; Publisher: Altium Limited; PackageDescription: DIP, 14-Pin, Row Spacing 7.62 mm, Pitch 2.54 mm; ComponentLink1Description: Manufacturer Link; ComponentLink1URL: http://www.maxim-ic.com/; ComponentLink2Description: Datasheet; ComponentLink2URL: http://pdfserv.maxim-ic.com/en/ds/DG381A-DG390A.pdf
footprint JD14 (DIP, 14-Leads, Row Spacing 7.62mm, Pitch 2.54mm, Body 19.56x6.73mm)
3D model JD14 (DIP, 14-Pin, Row Spacing 7.62 mm, Pitch 2.54 mm)
pins: 1 NC, 2 NC, 3 D1 (io), 4 S1 (io), 5 IN (in), 6 VDD (power), 7 NC (power), 8 GND (power), 9 VEE (power), 10 NC, 11 S2 (io), 12 D2 (io), 13 NC, 14 NC

## DG387AK
designator U?
CMOS Analog Switch; Published: 16-Jan-2001; LatestRevisionDate: 29-May-2009; LatestRevisionNote: Component Body Added.; PackageVersion: 1996; PackageReference: JD14; Publisher: Altium Limited; PackageDescription: DIP, 14-Pin, Row Spacing 7.62 mm, Pitch 2.54 mm; ComponentLink1Description: Manufacturer Link; ComponentLink1URL: http://www.maxim-ic.com/; ComponentLink2Description: Datasheet; ComponentLink2URL: http://pdfserv.maxim-ic.com/en/ds/DG381A-DG390A.pdf
footprint JD14 (DIP, 14-Leads, Row Spacing 7.62mm, Pitch 2.54mm, Body 19.56x6.73mm)
3D model JD14 (DIP, 14-Pin, Row Spacing 7.62 mm, Pitch 2.54 mm)
pins: 1 NC, 2 NC, 3 D1 (io), 4 S1 (io), 5 IN (in), 6 VDD (power), 7 NC (power), 8 GND (power), 9 VEE (power), 10 NC, 11 S2 (io), 12 D2 (io), 13 NC, 14 NC

## DG387CJ
designator U?
CMOS Analog Switch; Published: 16-Jan-2001; LatestRevisionDate: 29-May-2009; LatestRevisionNote: Component Body Added.; PackageVersion: RevB, 21-0043; PackageReference: PD14; Publisher: Altium Limited; PackageDescription: DIP, 14-Pin, Row Spacing 7.62 mm, Pitch 2.54 mm; Code_JEDEC: MS-001-AC; ComponentLink1Description: Manufacturer Link; ComponentLink1URL: http://www.maxim-ic.com/; ComponentLink2Description: Datasheet; ComponentLink2URL: http://pdfserv.maxim-ic.com/en/ds/DG381A-DG390A.pdf
footprint PD14 (DIP, 14-Leads, Row Spacing 7.62mm, Pitch 2.54mm, Body 19.05x7.24mm)
3D model PD14 (DIP, 14-Pin, Row Spacing 7.62 mm, Pitch 2.54 mm)
pins: 1 NC, 2 NC, 3 D1 (io), 4 S1 (io), 5 IN (in), 6 VDD (power), 7 NC (power), 8 GND (power), 9 VEE (power), 10 NC, 11 S2 (io), 12 D2 (io), 13 NC, 14 NC

## DG387CK
designator U?
CMOS Analog Switch; Published: 16-Jan-2001; LatestRevisionDate: 29-May-2009; LatestRevisionNote: Component Body Added.; PackageVersion: 1996; PackageReference: JD14; Publisher: Altium Limited; PackageDescription: DIP, 14-Pin, Row Spacing 7.62 mm, Pitch 2.54 mm; ComponentLink1Description: Manufacturer Link; ComponentLink1URL: http://www.maxim-ic.com/; ComponentLink2Description: Datasheet; ComponentLink2URL: http://pdfserv.maxim-ic.com/en/ds/DG381A-DG390A.pdf
footprint JD14 (DIP, 14-Leads, Row Spacing 7.62mm, Pitch 2.54mm, Body 19.56x6.73mm)
3D model JD14 (DIP, 14-Pin, Row Spacing 7.62 mm, Pitch 2.54 mm)
pins: 1 NC, 2 NC, 3 D1 (io), 4 S1 (io), 5 IN (in), 6 VDD (power), 7 NC (power), 8 GND (power), 9 VEE (power), 10 NC, 11 S2 (io), 12 D2 (io), 13 NC, 14 NC

## DG390ABK
designator U?
CMOS Analog Switch; Published: 16-Jan-2001; LatestRevisionDate: 29-May-2009; LatestRevisionNote: Component Body Added.; PackageVersion: 1996; PackageReference: JE16; Publisher: Altium Limited; PackageDescription: DIP, 16-Pin, Row Spacing 7.62 mm, Pitch 2.54 mm; ComponentLink1Description: Manufacturer Link; ComponentLink1URL: http://www.maxim-ic.com/; ComponentLink2Description: Datasheet; ComponentLink2URL: http://pdfserv.maxim-ic.com/en/ds/DG381A-DG390A.pdf
footprint JE16 (DIP, 16-Leads, Row Spacing 7.62mm, Pitch 2.54mm, Body 20.37x6.73mm)
3D model JE16 (DIP, 16-Pin, Row Spacing 7.62 mm, Pitch 2.54 mm)
pins: 1 D1 (io), 2 NC, 3 D3 (io), 4 S3 (io), 5 S4 (io), 6 D4 (io), 7 NC, 8 D2 (io), 9 S2 (io), 10 IN2 (in), 11 VDD (power), 12 NC, 13 GND (power), 14 VEE (power), 15 IN1 (in), 16 S1 (io)

## DG390ABWE
designator U?
CMOS Analog Switch; Published: 16-Jan-2001; LatestRevisionDate: 13-Apr-2006; LatestRevisionNote: IPC-7351 Footprint Added.; PackageReference: WSO16; Publisher: Altium Limited; PackageDescription: 16-Pin Small Outline Integrated Circuit 1.27 mm Pitch; Code_JEDEC: MS-013-AA; Code_IPC: SOIC127P1030-16; ComponentLink1Description: Manufacturer Link; ComponentLink1URL: http://www.maxim-ic.com/; ComponentLink2Description: Datasheet; ComponentLink2URL: http://pdfserv.maxim-ic.com/en/ds/DG381A-DG390A.pdf
footprint WSO16_N (SOIC, 16-Leads, Body 10.3x7.5mm, Pitch 1.27mm, IPC Medium Density)
footprint WSO16_L (SOIC, 16-Leads, Body 10.3x7.5mm, Pitch 1.27mm, IPC High Density)
footprint WSO16_M (SOIC, 16-Leads, Body 10.3x7.5mm, Pitch 1.27mm, IPC Low Density)
3D model WSO16 (16-Pin Small Outline Integrated Circuit 1.27 mm Pitch)
pins: 1 D1 (io), 2 NC, 3 D3 (io), 4 S3 (io), 5 S4 (io), 6 D4 (io), 7 NC, 8 D2 (io), 9 S2 (io), 10 IN2 (in), 11 VDD (power), 12 NC, 13 GND (power), 14 VEE (power), 15 IN1 (in), 16 S1 (io)

## DG390ACJ
designator U?
CMOS Analog Switch; Published: 16-Jan-2001; LatestRevisionDate: 29-May-2009; LatestRevisionNote: Component Body Added.; PackageVersion: 1997; PackageReference: PE16A; Publisher: Altium Limited; PackageDescription: DIP, 16-Pin, Row Spacing 7.62 mm, Pitch 2.54 mm; Code_JEDEC: MS-001-BB; ComponentLink1Description: Manufacturer Link; ComponentLink1URL: http://www.maxim-ic.com/; ComponentLink2Description: Datasheet; ComponentLink2URL: http://pdfserv.maxim-ic.com/en/ds/DG381A-DG390A.pdf
footprint PE16A (DIP, 16-Leads, Row Spacing 7.62mm, Pitch 2.54mm, Body 19.18x6.99mm)
3D model PE16 (DIP, 16-Pin, Row Spacing 7.62 mm, Pitch 2.54 mm)
pins: 1 D1 (io), 2 NC, 3 D3 (io), 4 S3 (io), 5 S4 (io), 6 D4 (io), 7 NC, 8 D2 (io), 9 S2 (io), 10 IN2 (in), 11 VDD (power), 12 NC, 13 GND (power), 14 VEE (power), 15 IN1 (in), 16 S1 (io)

## DG390ACK
designator U?
CMOS Analog Switch; Published: 16-Jan-2001; LatestRevisionDate: 29-May-2009; LatestRevisionNote: Component Body Added.; PackageVersion: 1996; PackageReference: JE16; Publisher: Altium Limited; PackageDescription: DIP, 16-Pin, Row Spacing 7.62 mm, Pitch 2.54 mm; ComponentLink1Description: Manufacturer Link; ComponentLink1URL: http://www.maxim-ic.com/; ComponentLink2Description: Datasheet; ComponentLink2URL: http://pdfserv.maxim-ic.com/en/ds/DG381A-DG390A.pdf
footprint JE16 (DIP, 16-Leads, Row Spacing 7.62mm, Pitch 2.54mm, Body 20.37x6.73mm)
3D model JE16 (DIP, 16-Pin, Row Spacing 7.62 mm, Pitch 2.54 mm)
pins: 1 D1 (io), 2 NC, 3 D3 (io), 4 S3 (io), 5 S4 (io), 6 D4 (io), 7 NC, 8 D2 (io), 9 S2 (io), 10 IN2 (in), 11 VDD (power), 12 NC, 13 GND (power), 14 VEE (power), 15 IN1 (in), 16 S1 (io)

## DG390ACWE
designator U?
CMOS Analog Switch; Published: 16-Jan-2001; LatestRevisionDate: 13-Apr-2006; LatestRevisionNote: IPC-7351 Footprint Added.; PackageReference: WSO16; Publisher: Altium Limited; PackageDescription: 16-Pin Small Outline Integrated Circuit 1.27 mm Pitch; Code_JEDEC: MS-013-AA; Code_IPC: SOIC127P1030-16; ComponentLink1Description: Manufacturer Link; ComponentLink1URL: http://www.maxim-ic.com/; ComponentLink2Description: Datasheet; ComponentLink2URL: http://pdfserv.maxim-ic.com/en/ds/DG381A-DG390A.pdf
footprint WSO16_N (SOIC, 16-Leads, Body 10.3x7.5mm, Pitch 1.27mm, IPC Medium Density)
footprint WSO16_L (SOIC, 16-Leads, Body 10.3x7.5mm, Pitch 1.27mm, IPC High Density)
footprint WSO16_M (SOIC, 16-Leads, Body 10.3x7.5mm, Pitch 1.27mm, IPC Low Density)
3D model WSO16 (16-Pin Small Outline Integrated Circuit 1.27 mm Pitch)
pins: 1 D1 (io), 2 NC, 3 D3 (io), 4 S3 (io), 5 S4 (io), 6 D4 (io), 7 NC, 8 D2 (io), 9 S2 (io), 10 IN2 (in), 11 VDD (power), 12 NC, 13 GND (power), 14 VEE (power), 15 IN1 (in), 16 S1 (io)

## DG390AK
designator U?
CMOS Analog Switch; Published: 16-Jan-2001; LatestRevisionDate: 29-May-2009; LatestRevisionNote: Component Body Added.; PackageVersion: 1996; PackageReference: JE16; Publisher: Altium Limited; PackageDescription: DIP, 16-Pin, Row Spacing 7.62 mm, Pitch 2.54 mm; ComponentLink1Description: Manufacturer Link; ComponentLink1URL: http://www.maxim-ic.com/; ComponentLink2Description: Datasheet; ComponentLink2URL: http://pdfserv.maxim-ic.com/en/ds/DG381A-DG390A.pdf
footprint JE16 (DIP, 16-Leads, Row Spacing 7.62mm, Pitch 2.54mm, Body 20.37x6.73mm)
3D model JE16 (DIP, 16-Pin, Row Spacing 7.62 mm, Pitch 2.54 mm)
pins: 1 D1 (io), 2 NC, 3 D3 (io), 4 S3 (io), 5 S4 (io), 6 D4 (io), 7 NC, 8 D2 (io), 9 S2 (io), 10 IN2 (in), 11 VDD (power), 12 NC, 13 GND (power), 14 VEE (power), 15 IN1 (in), 16 S1 (io)

## DG390BK
designator U?
CMOS Analog Switch; Published: 16-Jan-2001; LatestRevisionDate: 29-May-2009; LatestRevisionNote: Component Body Added.; PackageVersion: 1996; PackageReference: JE16; Publisher: Altium Limited; PackageDescription: DIP, 16-Pin, Row Spacing 7.62 mm, Pitch 2.54 mm; ComponentLink1Description: Manufacturer Link; ComponentLink1URL: http://www.maxim-ic.com/; ComponentLink2Description: Datasheet; ComponentLink2URL: http://pdfserv.maxim-ic.com/en/ds/DG381A-DG390A.pdf
footprint JE16 (DIP, 16-Leads, Row Spacing 7.62mm, Pitch 2.54mm, Body 20.37x6.73mm)
3D model JE16 (DIP, 16-Pin, Row Spacing 7.62 mm, Pitch 2.54 mm)
pins: 1 D1 (io), 2 NC, 3 D3 (io), 4 S3 (io), 5 S4 (io), 6 D4 (io), 7 NC, 8 D2 (io), 9 S2 (io), 10 IN2 (in), 11 VDD (power), 12 NC, 13 GND (power), 14 VEE (power), 15 IN1 (in), 16 S1 (io)

## DG390BWE
designator U?
CMOS Analog Switch; Published: 16-Jan-2001; LatestRevisionDate: 13-Apr-2006; LatestRevisionNote: IPC-7351 Footprint Added.; PackageReference: WSO16; Publisher: Altium Limited; PackageDescription: 16-Pin Small Outline Integrated Circuit 1.27 mm Pitch; Code_JEDEC: MS-013-AA; Code_IPC: SOIC127P1030-16; ComponentLink1Description: Manufacturer Link; ComponentLink1URL: http://www.maxim-ic.com/; ComponentLink2Description: Datasheet; ComponentLink2URL: http://pdfserv.maxim-ic.com/en/ds/DG381A-DG390A.pdf
footprint WSO16_N (SOIC, 16-Leads, Body 10.3x7.5mm, Pitch 1.27mm, IPC Medium Density)
footprint WSO16_L (SOIC, 16-Leads, Body 10.3x7.5mm, Pitch 1.27mm, IPC High Density)
footprint WSO16_M (SOIC, 16-Leads, Body 10.3x7.5mm, Pitch 1.27mm, IPC Low Density)
3D model WSO16 (16-Pin Small Outline Integrated Circuit 1.27 mm Pitch)
pins: 1 D1 (io), 2 NC, 3 D3 (io), 4 S3 (io), 5 S4 (io), 6 D4 (io), 7 NC, 8 D2 (io), 9 S2 (io), 10 IN2 (in), 11 VDD (power), 12 NC, 13 GND (power), 14 VEE (power), 15 IN1 (in), 16 S1 (io)

## DG390CJ
designator U?
CMOS Analog Switch; Published: 16-Jan-2001; LatestRevisionDate: 29-May-2009; LatestRevisionNote: Component Body Added.; PackageVersion: 1997; PackageReference: PE16A; Publisher: Altium Limited; PackageDescription: DIP, 16-Pin, Row Spacing 7.62 mm, Pitch 2.54 mm; Code_JEDEC: MS-001-BB; ComponentLink1Description: Manufacturer Link; ComponentLink1URL: http://www.maxim-ic.com/; ComponentLink2Description: Datasheet; ComponentLink2URL: http://pdfserv.maxim-ic.com/en/ds/DG381A-DG390A.pdf
footprint PE16A (DIP, 16-Leads, Row Spacing 7.62mm, Pitch 2.54mm, Body 19.18x6.99mm)
3D model PE16 (DIP, 16-Pin, Row Spacing 7.62 mm, Pitch 2.54 mm)
pins: 1 D1 (io), 2 NC, 3 D3 (io), 4 S3 (io), 5 S4 (io), 6 D4 (io), 7 NC, 8 D2 (io), 9 S2 (io), 10 IN2 (in), 11 VDD (power), 12 NC, 13 GND (power), 14 VEE (power), 15 IN1 (in), 16 S1 (io)

## DG390CK
designator U?
CMOS Analog Switch; Published: 16-Jan-2001; LatestRevisionDate: 29-May-2009; LatestRevisionNote: Component Body Added.; PackageVersion: 1996; PackageReference: JE16; Publisher: Altium Limited; PackageDescription: DIP, 16-Pin, Row Spacing 7.62 mm, Pitch 2.54 mm; ComponentLink1Description: Manufacturer Link; ComponentLink1URL: http://www.maxim-ic.com/; ComponentLink2Description: Datasheet; ComponentLink2URL: http://pdfserv.maxim-ic.com/en/ds/DG381A-DG390A.pdf
footprint JE16 (DIP, 16-Leads, Row Spacing 7.62mm, Pitch 2.54mm, Body 20.37x6.73mm)
3D model JE16 (DIP, 16-Pin, Row Spacing 7.62 mm, Pitch 2.54 mm)
pins: 1 D1 (io), 2 NC, 3 D3 (io), 4 S3 (io), 5 S4 (io), 6 D4 (io), 7 NC, 8 D2 (io), 9 S2 (io), 10 IN2 (in), 11 VDD (power), 12 NC, 13 GND (power), 14 VEE (power), 15 IN1 (in), 16 S1 (io)

## DG390CWE
designator U?
CMOS Analog Switch; Published: 16-Jan-2001; LatestRevisionDate: 13-Apr-2006; LatestRevisionNote: IPC-7351 Footprint Added.; PackageReference: WSO16; Publisher: Altium Limited; PackageDescription: 16-Pin Small Outline Integrated Circuit 1.27 mm Pitch; Code_JEDEC: MS-013-AA; Code_IPC: SOIC127P1030-16; ComponentLink1Description: Manufacturer Link; ComponentLink1URL: http://www.maxim-ic.com/; ComponentLink2Description: Datasheet; ComponentLink2URL: http://pdfserv.maxim-ic.com/en/ds/DG381A-DG390A.pdf
footprint WSO16_N (SOIC, 16-Leads, Body 10.3x7.5mm, Pitch 1.27mm, IPC Medium Density)
footprint WSO16_L (SOIC, 16-Leads, Body 10.3x7.5mm, Pitch 1.27mm, IPC High Density)
footprint WSO16_M (SOIC, 16-Leads, Body 10.3x7.5mm, Pitch 1.27mm, IPC Low Density)
3D model WSO16 (16-Pin Small Outline Integrated Circuit 1.27 mm Pitch)
pins: 1 D1 (io), 2 NC, 3 D3 (io), 4 S3 (io), 5 S4 (io), 6 D4 (io), 7 NC, 8 D2 (io), 9 S2 (io), 10 IN2 (in), 11 VDD (power), 12 NC, 13 GND (power), 14 VEE (power), 15 IN1 (in), 16 S1 (io)

## DG403AK
designator U?
Improved, Dual High Speed Analog Switch; Published: 16-Jan-2001; LatestRevisionDate: 29-May-2009; LatestRevisionNote: Component Body Added.; PackageVersion: 1996; PackageReference: JE16; Publisher: Altium Limited; PackageDescription: DIP, 16-Pin, Row Spacing 7.62 mm, Pitch 2.54 mm; ComponentLink1Description: Manufacturer Link; ComponentLink1URL: http://www.maxim-ic.com/; ComponentLink2Description: Datasheet; ComponentLink2URL: http://pdfserv.maxim-ic.com/en/ds/DG401-DG405.pdf
footprint JE16 (DIP, 16-Leads, Row Spacing 7.62mm, Pitch 2.54mm, Body 20.37x6.73mm)
3D model JE16 (DIP, 16-Pin, Row Spacing 7.62 mm, Pitch 2.54 mm)
pins: 1 D1 (io), 2 NC, 3 D3 (io), 4 S3 (io), 5 S4 (io), 6 D4 (io), 7 NC, 8 D2 (io), 9 S2 (io), 10 IN2 (in), 11 VDD (power), 12 VL (power), 13 GND (power), 14 VEE (power), 15 IN1 (in), 16 S1 (io)

## DG403AZ
designator U?
Improved, Dual High Speed Analog Switch; Published: 16-Jan-2001; LatestRevisionDate: 17-Jul-2002; LatestRevisionNote: Re-released for DXP Platform.; PackageReference: LCC20; Publisher: Altium Limited; PackageDescription: Leadless Chip Carrier; 20 Terminals; Body 8.9 x 8.9 mm; ComponentLink1Description: Manufacturer Link; ComponentLink1URL: http://www.maxim-ic.com/; ComponentLink2Description: Datasheet; ComponentLink2URL: http://pdfserv.maxim-ic.com/en/ds/DG401-DG405.pdf
footprint LCC20 (Leadless Chip Carrier; 20 Terminals; Body 8.9 x 8.9 mm)
footprint LCC20_N (Leadless Chip Carrier, 20-Leads, Body 8.9x8.9mm, Pitch 1.27mm, IPC Medium Density)
footprint LCC20_L (Leadless Chip Carrier, 20-Leads, Body 8.9x8.9mm, Pitch 1.27mm, IPC High Density)
footprint LCC20_M (Leadless Chip Carrier, 20-Leads, Body 8.9x8.9mm, Pitch 1.27mm, IPC Low Density)
pins: 1 NC, 2 D1 (io), 3 NC, 4 D3 (io), 5 S3 (io), 6 NC, 7 S4 (io), 8 D4 (io), 9 NC, 10 D2 (io), 11 NC, 12 S2 (io), 13 IN2 (in), 14 VDD (power), 15 VL (power), 16 NC, 17 GND (power), 18 VEE (power), 19 IN1 (in), 20 S1 (io)

## DG403CJ
designator U?
Improved, Dual High Speed Analog Switch; Published: 16-Jan-2001; LatestRevisionDate: 29-May-2009; LatestRevisionNote: Component Body Added.; PackageVersion: 1997; PackageReference: PE16A; Publisher: Altium Limited; PackageDescription: DIP, 16-Pin, Row Spacing 7.62 mm, Pitch 2.54 mm; Code_JEDEC: MS-001-BB; ComponentLink1Description: Manufacturer Link; ComponentLink1URL: http://www.maxim-ic.com/; ComponentLink2Description: Datasheet; ComponentLink2URL: http://pdfserv.maxim-ic.com/en/ds/DG401-DG405.pdf
footprint PE16A (DIP, 16-Leads, Row Spacing 7.62mm, Pitch 2.54mm, Body 19.18x6.99mm)
3D model PE16 (DIP, 16-Pin, Row Spacing 7.62 mm, Pitch 2.54 mm)
pins: 1 D1 (io), 2 NC, 3 D3 (io), 4 S3 (io), 5 S4 (io), 6 D4 (io), 7 NC, 8 D2 (io), 9 S2 (io), 10 IN2 (in), 11 VDD (power), 12 VL (power), 13 GND (power), 14 VEE (power), 15 IN1 (in), 16 S1 (io)

## DG403CY
designator U?
Improved, Dual High Speed Analog Switch; Published: 16-Jan-2001; LatestRevisionDate: 13-Apr-2006; LatestRevisionNote: IPC-7351 Footprint Added.; PackageReference: NSO16; Publisher: Altium Limited; PackageDescription: 16-Pin Small Outline Integrated Circuit 1.27 mm Pitch; Code_JEDEC: MS-012-AC; Code_IPC: SOIC127P600-16; ComponentLink1Description: Manufacturer Link; ComponentLink1URL: http://www.maxim-ic.com/; ComponentLink2Description: Datasheet; ComponentLink2URL: http://pdfserv.maxim-ic.com/en/ds/DG401-DG405.pdf
footprint NSO16_N (SOIC, 16-Leads, Body 9.9x3.9mm, Pitch 1.27mm, IPC Medium Density)
footprint NSO16_L (SOIC, 16-Leads, Body 9.9x3.9mm, Pitch 1.27mm, IPC High Density)
footprint NSO16_M (SOIC, 16-Leads, Body 9.9x3.9mm, Pitch 1.27mm, IPC Low Density)
3D model NSO16 (16-Pin Small Outline Integrated Circuit 1.27 mm Pitch)
pins: 1 D1 (io), 2 NC, 3 D3 (io), 4 S3 (io), 5 S4 (io), 6 D4 (io), 7 NC, 8 D2 (io), 9 S2 (io), 10 IN2 (in), 11 VDD (power), 12 VL (power), 13 GND (power), 14 VEE (power), 15 IN1 (in), 16 S1 (io)

## DG403DJ
designator U?
Improved, Dual High Speed Analog Switch; Published: 16-Jan-2001; LatestRevisionDate: 29-May-2009; LatestRevisionNote: Component Body Added.; PackageVersion: 1997; PackageReference: PE16A; Publisher: Altium Limited; PackageDescription: DIP, 16-Pin, Row Spacing 7.62 mm, Pitch 2.54 mm; Code_JEDEC: MS-001-BB; ComponentLink1Description: Manufacturer Link; ComponentLink1URL: http://www.maxim-ic.com/; ComponentLink2Description: Datasheet; ComponentLink2URL: http://pdfserv.maxim-ic.com/en/ds/DG401-DG405.pdf
footprint PE16A (DIP, 16-Leads, Row Spacing 7.62mm, Pitch 2.54mm, Body 19.18x6.99mm)
3D model PE16 (DIP, 16-Pin, Row Spacing 7.62 mm, Pitch 2.54 mm)
pins: 1 D1 (io), 2 NC, 3 D3 (io), 4 S3 (io), 5 S4 (io), 6 D4 (io), 7 NC, 8 D2 (io), 9 S2 (io), 10 IN2 (in), 11 VDD (power), 12 VL (power), 13 GND (power), 14 VEE (power), 15 IN1 (in), 16 S1 (io)

## DG403DK
designator U?
Improved, Dual High Speed Analog Switch; Published: 16-Jan-2001; LatestRevisionDate: 29-May-2009; LatestRevisionNote: Component Body Added.; PackageVersion: 1996; PackageReference: JE16; Publisher: Altium Limited; PackageDescription: DIP, 16-Pin, Row Spacing 7.62 mm, Pitch 2.54 mm; ComponentLink1Description: Manufacturer Link; ComponentLink1URL: http://www.maxim-ic.com/; ComponentLink2Description: Datasheet; ComponentLink2URL: http://pdfserv.maxim-ic.com/en/ds/DG401-DG405.pdf
footprint JE16 (DIP, 16-Leads, Row Spacing 7.62mm, Pitch 2.54mm, Body 20.37x6.73mm)
3D model JE16 (DIP, 16-Pin, Row Spacing 7.62 mm, Pitch 2.54 mm)
pins: 1 D1 (io), 2 NC, 3 D3 (io), 4 S3 (io), 5 S4 (io), 6 D4 (io), 7 NC, 8 D2 (io), 9 S2 (io), 10 IN2 (in), 11 VDD (power), 12 VL (power), 13 GND (power), 14 VEE (power), 15 IN1 (in), 16 S1 (io)

## DG403DY
designator U?
Improved, Dual High Speed Analog Switch; Published: 16-Jan-2001; LatestRevisionDate: 13-Apr-2006; LatestRevisionNote: IPC-7351 Footprint Added.; PackageReference: NSO16; Publisher: Altium Limited; PackageDescription: 16-Pin Small Outline Integrated Circuit 1.27 mm Pitch; Code_JEDEC: MS-012-AC; Code_IPC: SOIC127P600-16; ComponentLink1Description: Manufacturer Link; ComponentLink1URL: http://www.maxim-ic.com/; ComponentLink2Description: Datasheet; ComponentLink2URL: http://pdfserv.maxim-ic.com/en/ds/DG401-DG405.pdf
footprint NSO16_N (SOIC, 16-Leads, Body 9.9x3.9mm, Pitch 1.27mm, IPC Medium Density)
footprint NSO16_L (SOIC, 16-Leads, Body 9.9x3.9mm, Pitch 1.27mm, IPC High Density)
footprint NSO16_M (SOIC, 16-Leads, Body 9.9x3.9mm, Pitch 1.27mm, IPC Low Density)
3D model NSO16 (16-Pin Small Outline Integrated Circuit 1.27 mm Pitch)
pins: 1 D1 (io), 2 NC, 3 D3 (io), 4 S3 (io), 5 S4 (io), 6 D4 (io), 7 NC, 8 D2 (io), 9 S2 (io), 10 IN2 (in), 11 VDD (power), 12 VL (power), 13 GND (power), 14 VEE (power), 15 IN1 (in), 16 S1 (io)

## DG405AK
designator U?
Improved, Dual High Speed Analog Switch; Published: 16-Jan-2001; LatestRevisionDate: 29-May-2009; LatestRevisionNote: Component Body Added.; PackageVersion: 1996; PackageReference: JE16; Publisher: Altium Limited; PackageDescription: DIP, 16-Pin, Row Spacing 7.62 mm, Pitch 2.54 mm; ComponentLink1Description: Manufacturer Link; ComponentLink1URL: http://www.maxim-ic.com/; ComponentLink2Description: Datasheet; ComponentLink2URL: http://pdfserv.maxim-ic.com/en/ds/DG401-DG405.pdf
footprint JE16 (DIP, 16-Leads, Row Spacing 7.62mm, Pitch 2.54mm, Body 20.37x6.73mm)
3D model JE16 (DIP, 16-Pin, Row Spacing 7.62 mm, Pitch 2.54 mm)
pins: 1 D1 (io), 2 NC, 3 D3 (io), 4 S3 (io), 5 S4 (io), 6 D4 (io), 7 NC, 8 D2 (io), 9 S2 (io), 10 IN2 (in), 11 VDD (power), 12 VL (power), 13 GND (power), 14 VEE (power), 15 IN1 (in), 16 S1 (io)

## DG405AZ
designator U?
Improved, Dual High Speed Analog Switch; Published: 16-Jan-2001; LatestRevisionDate: 17-Jul-2002; LatestRevisionNote: Re-released for DXP Platform.; PackageReference: LCC20; Publisher: Altium Limited; PackageDescription: Leadless Chip Carrier; 20 Terminals; Body 8.9 x 8.9 mm; ComponentLink1Description: Manufacturer Link; ComponentLink1URL: http://www.maxim-ic.com/; ComponentLink2Description: Datasheet; ComponentLink2URL: http://pdfserv.maxim-ic.com/en/ds/DG401-DG405.pdf
footprint LCC20 (Leadless Chip Carrier; 20 Terminals; Body 8.9 x 8.9 mm)
footprint LCC20_N (Leadless Chip Carrier, 20-Leads, Body 8.9x8.9mm, Pitch 1.27mm, IPC Medium Density)
footprint LCC20_L (Leadless Chip Carrier, 20-Leads, Body 8.9x8.9mm, Pitch 1.27mm, IPC High Density)
footprint LCC20_M (Leadless Chip Carrier, 20-Leads, Body 8.9x8.9mm, Pitch 1.27mm, IPC Low Density)
pins: 1 NC, 2 D1 (io), 3 NC, 4 D3 (io), 5 S3 (io), 6 NC, 7 S4 (io), 8 D4 (io), 9 NC, 10 D2 (io), 11 NC, 12 S2 (io), 13 IN2 (in), 14 VDD (power), 15 VL (power), 16 NC, 17 GND (power), 18 VEE (power), 19 IN1 (in), 20 S1 (io)

## DG405CJ
designator U?
Improved, Dual High Speed Analog Switch; Published: 16-Jan-2001; LatestRevisionDate: 29-May-2009; LatestRevisionNote: Component Body Added.; PackageVersion: 1997; PackageReference: PE16A; Publisher: Altium Limited; PackageDescription: DIP, 16-Pin, Row Spacing 7.62 mm, Pitch 2.54 mm; Code_JEDEC: MS-001-BB; ComponentLink1Description: Manufacturer Link; ComponentLink1URL: http://www.maxim-ic.com/; ComponentLink2Description: Datasheet; ComponentLink2URL: http://pdfserv.maxim-ic.com/en/ds/DG401-DG405.pdf
footprint PE16A (DIP, 16-Leads, Row Spacing 7.62mm, Pitch 2.54mm, Body 19.18x6.99mm)
3D model PE16 (DIP, 16-Pin, Row Spacing 7.62 mm, Pitch 2.54 mm)
pins: 1 D1 (io), 2 NC, 3 D3 (io), 4 S3 (io), 5 S4 (io), 6 D4 (io), 7 NC, 8 D2 (io), 9 S2 (io), 10 IN2 (in), 11 VDD (power), 12 VL (power), 13 GND (power), 14 VEE (power), 15 IN1 (in), 16 S1 (io)

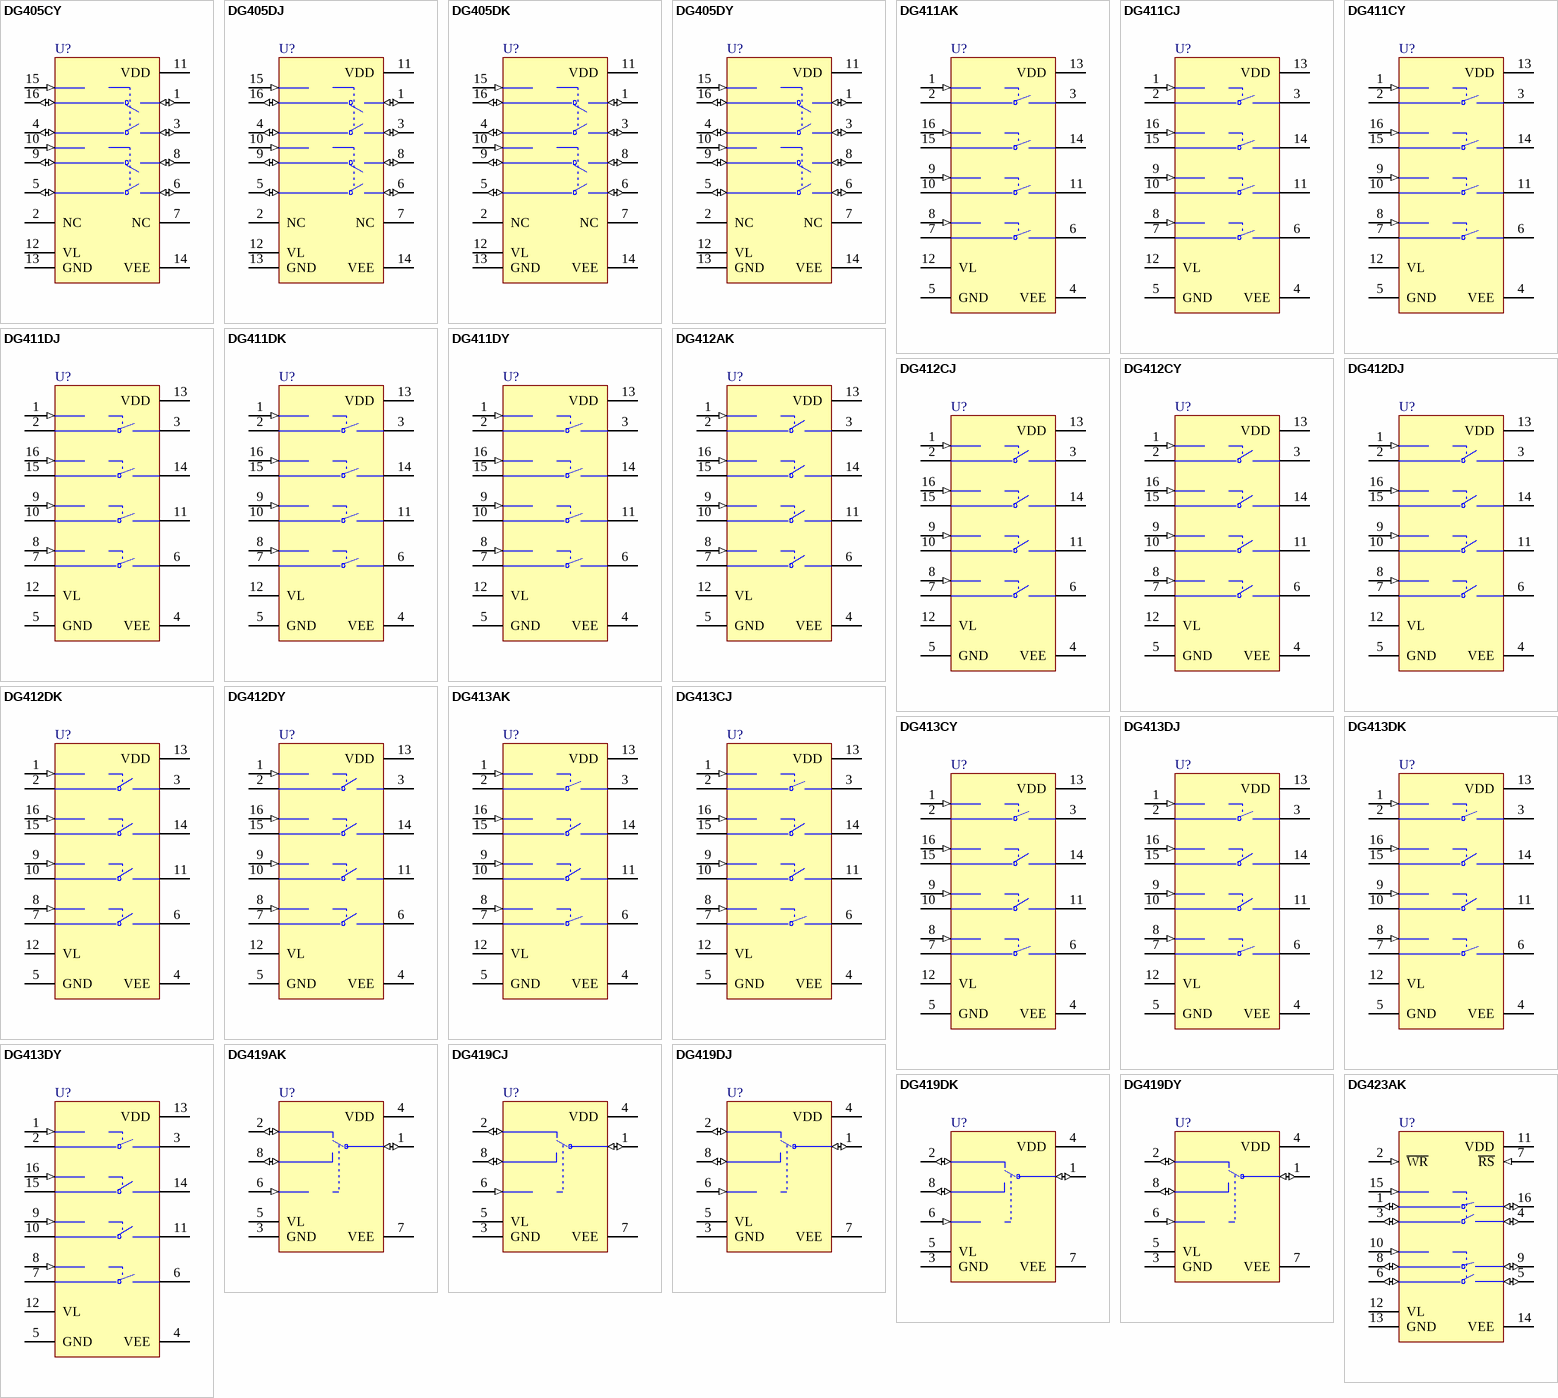
[diagram p5: symbols DG405CY to DG423AK]

## DG405CY
designator U?
Improved, Dual High Speed Analog Switch; Published: 16-Jan-2001; LatestRevisionDate: 13-Apr-2006; LatestRevisionNote: IPC-7351 Footprint Added.; PackageReference: NSO16; Publisher: Altium Limited; PackageDescription: 16-Pin Small Outline Integrated Circuit 1.27 mm Pitch; Code_JEDEC: MS-012-AC; Code_IPC: SOIC127P600-16; ComponentLink1Description: Manufacturer Link; ComponentLink1URL: http://www.maxim-ic.com/; ComponentLink2Description: Datasheet; ComponentLink2URL: http://pdfserv.maxim-ic.com/en/ds/DG401-DG405.pdf
footprint NSO16_N (SOIC, 16-Leads, Body 9.9x3.9mm, Pitch 1.27mm, IPC Medium Density)
footprint NSO16_L (SOIC, 16-Leads, Body 9.9x3.9mm, Pitch 1.27mm, IPC High Density)
footprint NSO16_M (SOIC, 16-Leads, Body 9.9x3.9mm, Pitch 1.27mm, IPC Low Density)
3D model NSO16 (16-Pin Small Outline Integrated Circuit 1.27 mm Pitch)
pins: 1 D1 (io), 2 NC, 3 D3 (io), 4 S3 (io), 5 S4 (io), 6 D4 (io), 7 NC, 8 D2 (io), 9 S2 (io), 10 IN2 (in), 11 VDD (power), 12 VL (power), 13 GND (power), 14 VEE (power), 15 IN1 (in), 16 S1 (io)